# EAGLE library part LPH-7366 (library jt_parts)
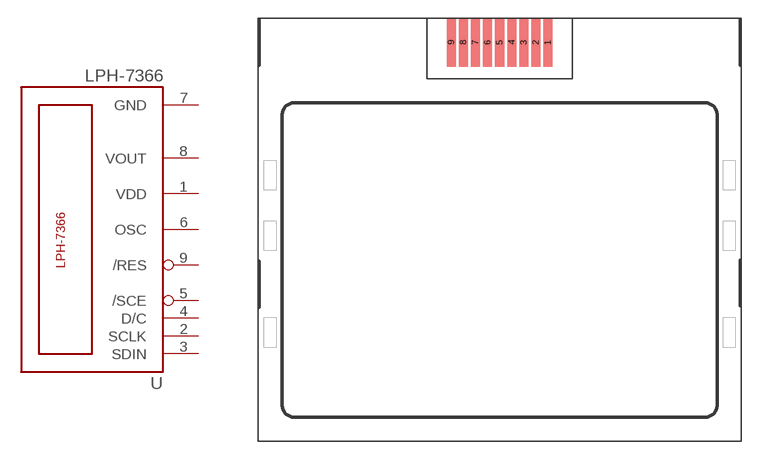
[diagram p6: symbol with the pads of NOKIA5110; footprint NOKIA5110]

Designator prefix -

## LPH-7366  [NOKIA5110]
1  VDD  pwr
2  SCLK  in
3  SDIN  in
4  D/C  in
5  /SCE  in
6  OSC  pas
7  GND  pwr
8  VOUT  pas
9  /RES  in

## Footprint NOKIA5110 (pad centres in mm)
smd 0.75 x 4: 1 4,17; 2 3,17; 3 2,17; 4 1,17; 5 0,17; 6 -1,17; 7 -2,17; 8 -3,17; 9 -4,17